# Altium integrated library Accelerometres.IntLib: 3 symbols
Pins are listed as number, name and electrical type; pins without a type are passive.

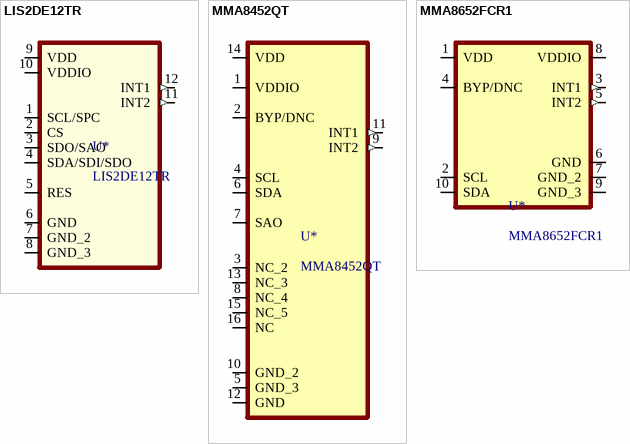
[diagram p0: symbols LIS2DE12TR to MMA8652FCR1]

## LIS2DE12TR
designator U*
footprint LIS2DE12TR (LGA, 12-Leads, Body 2,00x1,85mmx1,00mm, Pitch 0,50mm)
pins: 1 SCL/SPC, 2 CS, 3 SDO/SAO (io), 4 SDA/SDI/SDO (io), 5 RES, 6 GND, 7 GND_2, 8 GND_3, 9 VDD (power), 10 VDDIO (power), 11 INT2 (out), 12 INT1 (out)

## MMA8452QT
designator U*
footprint MMA8452QT (QFN, 16-Leads, Body 3,00x3,00mm, Pitch 0,50mm, Thermal Pad 1,24x2,24mm, IPC Medium Density)
pins: 1 VDDIO (power), 2 BYP/DNC, 3 NC_2, 4 SCL, 5 GND_3, 6 SDA, 7 SAO, 8 NC_4, 9 INT2 (out), 10 GND_2, 11 INT1 (out), 12 GND, 13 NC_3, 14 VDD (power), 15 NC_5, 16 NC

## MMA8652FCR1
designator U*
footprint MMA8652FCR1 (QFN, 10-Leads, Body 2,00x2,00mm, Pitch 0,00mm/0,40mm, Thermal Pad 0,00x0,93mm, IPC Medium Density)
pins: 1 VDD (power), 2 SCL, 3 INT1 (out), 4 BYP/DNC, 5 INT2 (out), 6 GND, 7 GND_2, 8 VDDIO (power), 9 GND_3, 10 SDA (io)